# Altium integrated library SensWearComponents.IntLib: 75 symbols (part 3 of 4)
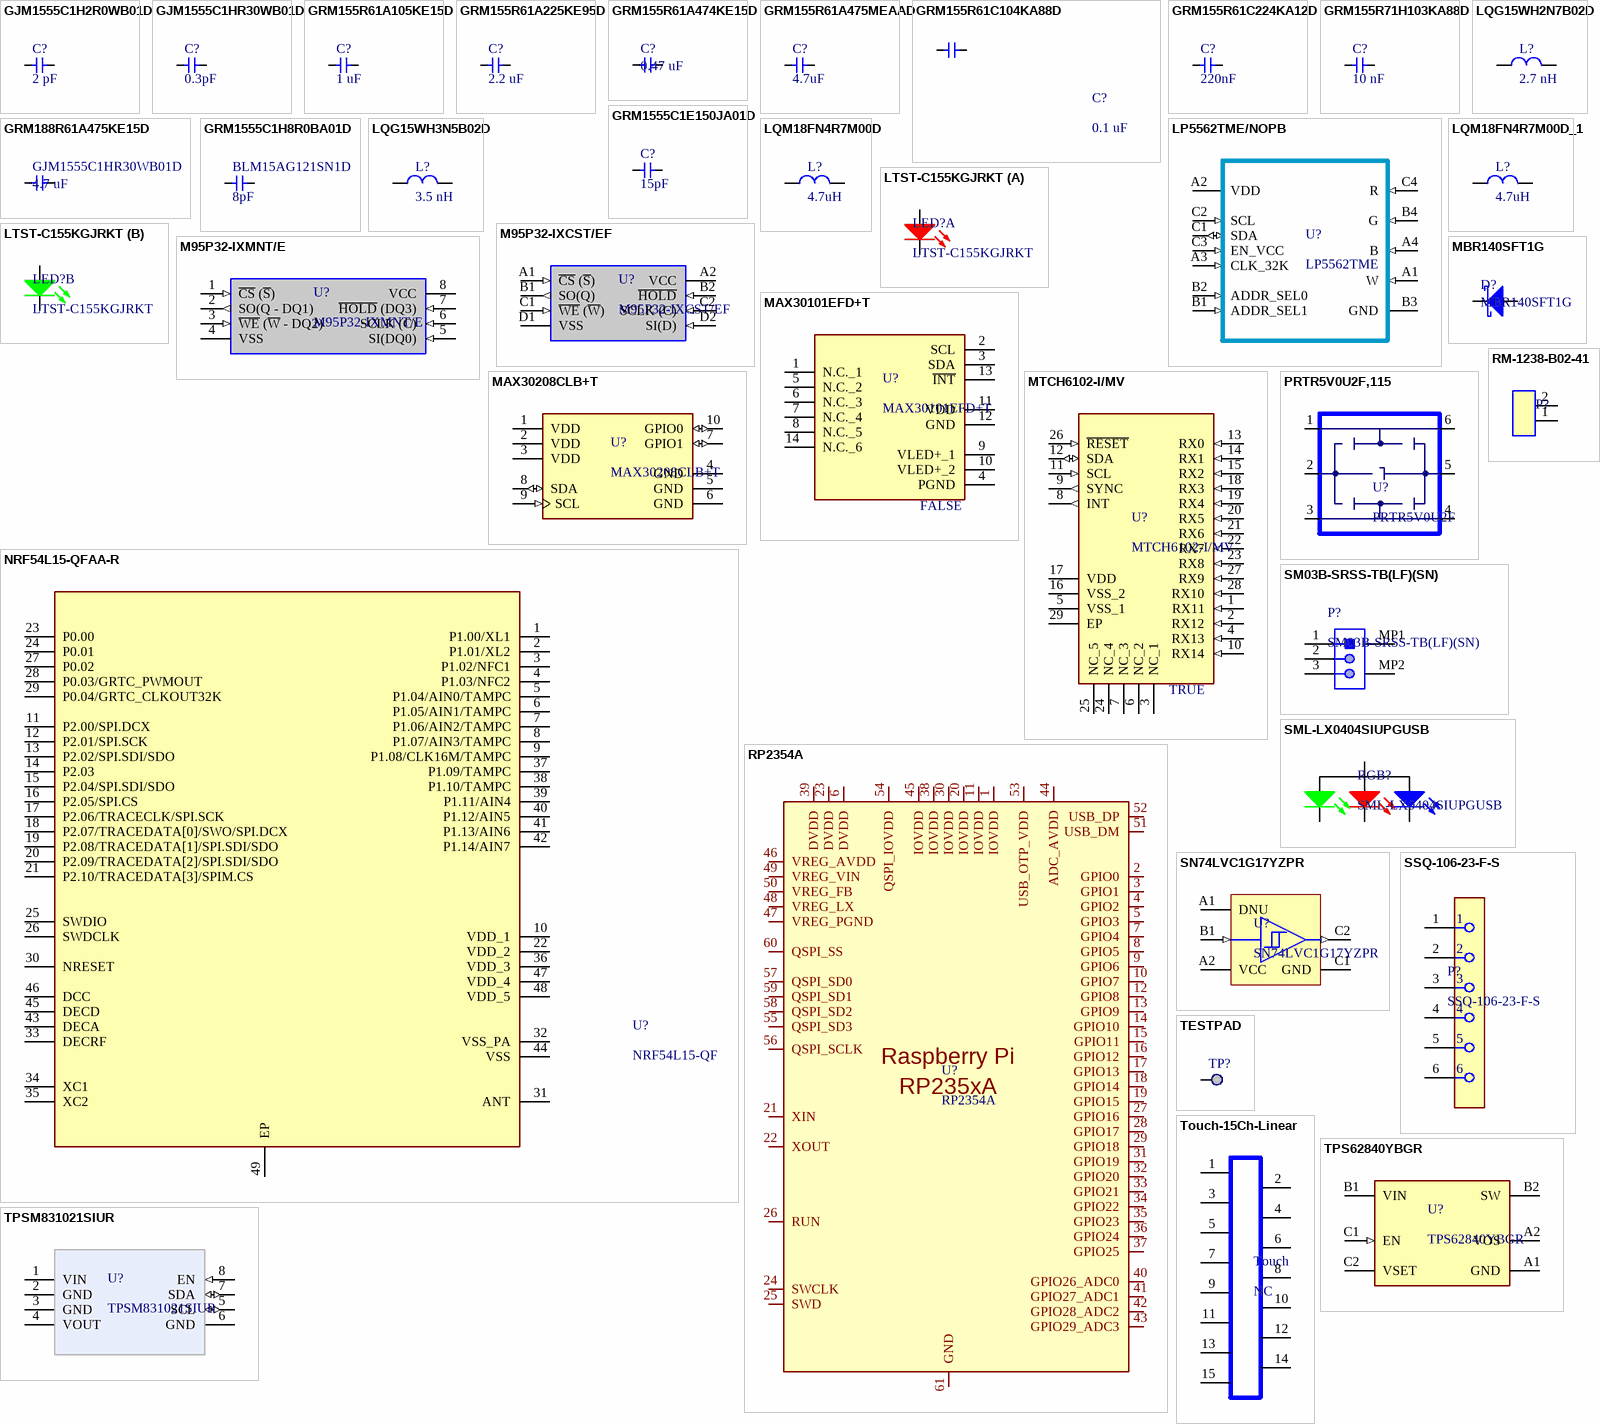
[diagram p3: symbols GJM1555C1H2R0WB01D to TPSM831021SIUR]

## LQM18FN4R7M00D
designator L?, comment 4.7uH
Inductor Power Chip Shielded Multi-Layer 4.7uH 20% 1MHz Ferrite 0.08A 0.78Ohm DCR 0603 T/R; Manufacturer: Murata; Manufacturer Part Number: LQM18FN4R7M00D; Manufacturer Lifecycle Status: ACTIVE; Self Resonant Frequency: 50MHz; DC Resistance (DCR): 600mR; Current Rating: 80mA; Average Rectified Current: 500mA; Element Configuration: Single; Forward Voltage: 460mV; Max Forward Surge Current (Ifsm): 10A; Max Junction Temperature (Tj): 150°C; Max Power Dissipation: 1.3W; Max Repetitive Reverse Voltage (Vrrm): 40V; Max Reverse Leakage Current: 15µA; Number of Elements: 1; Peak Reverse Current: 75µA; ESR: 780mΩ; Supplier: Mouser; Supplier Part Number: 81-LQM18FN4R7M00D; RoHS: Yes; Category: Fixed Inductors; Stock: 677; Pricing: 1=0.13, 10=0.11, 50=0.11, 100=0.091, 1000=0.075, 10000=0.06 (USD); Mounting Technology: Surface Mount; Case/Package: 0603; Core Material: Ferrite; Case Code (Metric): 1608; Case Code (Imperial): 0603; Weight: 7.1E-05oz; Min Operating Temperature: -55°C; Max Operating Temperature: 125°C; Tolerance: 20%; Shielding: Shielded; Packaging: Tape and Reel; Value: 4.7uH; Test Frequency: 1MHz; Series: LQM18F; Package Quantity: 1; Saturation Current: 80mA; Max DC Current: 80mA; Termination: SMD/SMT; DC Current: 80mA; Max Current Rating: 80mA; Length: 1.6mm; Width: 0.031inch; Height: 0.8mm; Height - Seated (Max): 0.035inch; Depth: 0.9mm; RoHS Compliant: Yes; Military Standard: Not; Lead Free: Lead Free; ComponentLink1URL: https://datasheet.ciiva.com/30489/0900766b812560c4-30489024.pdf?src-supplier=Rs; ComponentLink1Description: https://datasheet.ciiva.com/30489/0900766b812560c4-30489024.pdf?src-supplier=Rs; ComponentLink2URL: https://datasheet.ciiva.com/1039/l0075s0097lqm18f-1039394.pdf?src-supplier=Digikey; ComponentLink2Description: https://datasheet.ciiva.com/1039/l0075s0097lqm18f-1039394.pdf?src-supplier=Digikey; ComponentLink3URL: https://datasheet.ciiva.com/1039/l0075s0097lqm18f-1039393.pdf?src-supplier=Digikey; ComponentLink3Description: https://datasheet.ciiva.com/1039/l0075s0097lqm18f-1039393.pdf?src-supplier=Digikey; ComponentLink4URL: https://datasheet.ciiva.com/1039/l0075s0097lqm18f-1039395.pdf?src-supplier=Digikey; ComponentLink4Description: https://datasheet.ciiva.com/1039/l0075s0097lqm18f-1039395.pdf?src-supplier=Digikey; ComponentLink5URL: https://datasheet.ciiva.com/3082/l0075s0097lqm18f-3082197.pdf?src-supplier=Avnet; ComponentLink5Description: https://datasheet.ciiva.com/3082/l0075s0097lqm18f-3082197.pdf?src-supplier=Avnet; ComponentLink6URL: https://datasheet.ciiva.com/16390/l0075s0097lqm18f-16390346.pdf?src-supplier=Future+Electronics; ComponentLink6Description: https://datasheet.ciiva.com/16390/l0075s0097lqm18f-16390346.pdf?src-supplier=Future+Electronics; Supplier 1: Mouser; Supplier Part Number 1: 81-LQM18FN4R7M00D; Supplier 2: Digikey; Supplier Part Number 2: 490-4024-1-ND; Supplier 3: Digikey; Supplier Part Number 3: 490-4024-6-ND; China RoHS: Compliant; Contact Plating: Tin; Forward Current: 500mA; Lifecycle Status: Production; Max Output current: 500mA; Max Reverse Voltage (DC): 40V; Max Surge Current: 10A; Min Breakdown Voltage: 40V; Pins: 2; Number of Terminals: 2; Peak Non-Repetitive Surge Current: 10A; Radiation Hardening: No; REACH SVHC: Yes; Reverse Standoff Voltage: 40V; Reverse Voltage: 40V; Schedule B: 8541100070, 8541100070|8541100070|8541100070|8541100070|8541100070; ComponentLink7URL: https://datasheet.octopart.com:443/NSR05F40NXT5G-ON-Semiconductor-datasheet-94104276.pdf?src-supplier=JRH+Electronics; ComponentLink7Description: https://datasheet.octopart.com:443/NSR05F40NXT5G-ON-Semiconductor-datasheet-94104276.pdf?src-supplier=JRH+Electronics; ComponentLink8URL: https://datasheet.octopart.com:443/NSR05F40NXT5G-onsemi-datasheet-180967270.pdf?src-supplier=IHS; ComponentLink8Description: https://datasheet.octopart.com:443/NSR05F40NXT5G-onsemi-datasheet-180967270.pdf?src-supplier=IHS; ComponentLink9URL: https://sigma.octopart.com:443/142493867/technical_drawing/ON-Semiconductor-NSR05F40NXT5G.pdf?src-supplier=Upverter; ComponentLink9Description: https://sigma.octopart.com:443/142493867/technical_drawing/ON-Semiconductor-NSR05F40NXT5G.pdf?src-supplier=Upverter; ComponentLink10URL: https://datasheet.octopart.com:443/NSR05F40NXT5G-ON-Semiconductor-datasheet-37177440.pdf?src-supplier=Future+Electronics; ComponentLink10Description: https://datasheet.octopart.com:443/NSR05F40NXT5G-ON-Semiconductor-datasheet-37177440.pdf?src-supplier=Future+Electronics; ComponentLink11URL: https://datasheet.octopart.com:443/NSR05F40NXT5G-ON-Semiconductor-datasheet-11745561.pdf?src-supplier=element14+APAC; ComponentLink11Description: https://datasheet.octopart.com:443/NSR05F40NXT5G-ON-Semiconductor-datasheet-11745561.pdf?src-supplier=element14+APAC; ComponentLink12URL: https://datasheet.octopart.com:443/NSR05F40NXT5G-onsemi-datasheet-157596273.pdf?src-supplier=TME; ComponentLink12Description: https://datasheet.octopart.com:443/NSR05F40NXT5G-onsemi-datasheet-157596273.pdf?src-supplier=TME; ComponentLink13URL: http://sigma.octopart.com:80/150628044/rohs_statement/ON-Semiconductor-NSR05F40NXT5G.pdf?src-supplier=Compliance+Statements; ComponentLink13Description: http://sigma.octopart.com:80/150628044/rohs_statement/ON-Semiconductor-NSR05F40NXT5G.pdf?src-supplier=Compliance+Statements; ComponentLink14URL: http://sigma.octopart.com:80/reach_statement/ON-Semiconductor-company-79.pdf?src-supplier=Compliance+Statements; ComponentLink14Description: http://sigma.octopart.com:80/reach_statement/ON-Semiconductor-company-79.pdf?src-supplier=Compliance+Statements; ComponentLink15URL: https://octopart.com:443/opatz8j6/c1?t=Uq4oP0XYW20rA7GHSBTJXxRF7eBdr4oxj12W_Ow5ZQAQn3aEDntsR0v86sH67Y1VYL5Qd9r7fRzpz2SYouYyA9JWBfabzTk58wY7bKwJhLgZjmWKK4ZrC-dHOp6ai5rBi6r7DXU3w6lacVIfvaDn2nRF9UvHTuHHr9E3jzJFHL2pmpzCgrd95MfAU6WRjEqPrH4FXmi5Pb5vezZnW2ixtA-n7Il4BdWyE0xwS-HrM7RWY8bZfc2VlpjgXKB69n0rSfU3KsfeR3bp8yru8gdBl9cDCMeIg9t034yDtaHrjWpzFh7BGxEtGBfDY3iFXfrKSjB-Z7YETzzcCTzQSl0QWI7OlnwEF9Yev97QIn5lCD4&src-supplier=Compliance+Statements; ComponentLink15Description: https://octopart.com:443/opatz8j6/c1?t=Uq4oP0XYW20rA7GHSBTJXxRF7eBdr4oxj12W_Ow5ZQAQn3aEDntsR0v86sH67Y1VYL5Qd9r7fRzpz2SYouYyA9JWBfabzTk58wY7bKwJhLgZjmWKK4ZrC-dHOp6ai5rBi6r7DXU3w6lacVIfvaDn2nRF9UvHTuHHr9E3jzJFHL2pmpzCgrd95MfAU6WRjEqPrH4FXmi5Pb5vezZnW2ixtA-n7Il4BdWyE0xwS-HrM7RWY8bZfc2VlpjgXKB69n0rSfU3KsfeR3bp8yru8gdBl9cDCMeIg9t034yDtaHrjWpzFh7BGxEtGBfDY3iFXfrKSjB-Z7YETzzcCTzQSl0QWI7OlnwEF9Yev97QIn5lCD4&src-supplier=Compliance+Statements; ComponentLink16URL: https://octopart.com:443/opatz8j6/c1?t=tOMwwjJdKrMCwwp9xDXBgZ8DJoU_ElaTzUGOgd_zZExvTTC0p2NYJW3NlBnhz5vf_HXY9LJ17f1o9pBU_tcUnujW_Yxlprmd2-sSoR96ke0Q8YbgF19hBsAJQWJxEiKYx35u9p3RsTvb0HgNXHPMjTb1dZ8WyWhX8zQvkz3pewxX8C7MxnfqoNUS5V31fEqnYepoV_6IM_4K9PSSvd1Oj8BtQ1Cn5zO6iYOB9Eq_KnshKwZS0MVEEWCWsRMCFOTvi-Nc5U63y5iUW2btnkkl7e38_9u1deLWq8gsS2jWLNyNz5NsbtUkrAQjDqhF1ZfhZmjirHTwNQnQ7j0N6RbRGNLHDdWnOo0xcrVv93vy-P5A&src-supplier=Compliance+Statements; ComponentLink16Description: https://octopart.com:443/opatz8j6/c1?t=tOMwwjJdKrMCwwp9xDXBgZ8DJoU_ElaTzUGOgd_zZExvTTC0p2NYJW3NlBnhz5vf_HXY9LJ17f1o9pBU_tcUnujW_Yxlprmd2-sSoR96ke0Q8YbgF19hBsAJQWJxEiKYx35u9p3RsTvb0HgNXHPMjTb1dZ8WyWhX8zQvkz3pewxX8C7MxnfqoNUS5V31fEqnYepoV_6IM_4K9PSSvd1Oj8BtQ1Cn5zO6iYOB9Eq_KnshKwZS0MVEEWCWsRMCFOTvi-Nc5U63y5iUW2btnkkl7e38_9u1deLWq8gsS2jWLNyNz5NsbtUkrAQjDqhF1ZfhZmjirHTwNQnQ7j0N6RbRGNLHDdWnOo0xcrVv93vy-P5A&src-supplier=Compliance+Statements; Number of Circuits: 1; RMS Current (Irms): 80mA; ComponentLink17URL: https://datasheet.octopart.com:443/LQM18FN4R7M00D-Murata-datasheet-11731136.pdf?src-supplier=_legacy+Avnet; ComponentLink17Description: https://datasheet.octopart.com:443/LQM18FN4R7M00D-Murata-datasheet-11731136.pdf?src-supplier=_legacy+Avnet; ComponentLink18URL: https://datasheet.octopart.com:443/LQM18FN4R7M00D-Murata-datasheet-113139558.pdf?src-supplier=Ciiva; ComponentLink18Description: https://datasheet.octopart.com:443/LQM18FN4R7M00D-Murata-datasheet-113139558.pdf?src-supplier=Ciiva; ComponentLink19URL: https://datasheet.octopart.com:443/LQM18FN4R7M00D-Murata-datasheet-141287866.pdf?src-supplier=Ciiva; ComponentLink19Description: https://datasheet.octopart.com:443/LQM18FN4R7M00D-Murata-datasheet-141287866.pdf?src-supplier=Ciiva; ComponentLink20URL: https://datasheet.octopart.com:443/LQM18FN4R7M00D-Murata-datasheet-140714244.pdf?src-supplier=Ciiva; ComponentLink20Description: https://datasheet.octopart.com:443/LQM18FN4R7M00D-Murata-datasheet-140714244.pdf?src-supplier=Ciiva; ComponentLink21URL: https://datasheet.octopart.com:443/LQM18FN4R7M00D-Murata-datasheet-8328914.pdf?src-supplier=Future+Electronics; ComponentLink21Description: https://datasheet.octopart.com:443/LQM18FN4R7M00D-Murata-datasheet-8328914.pdf?src-supplier=Future+Electronics; ComponentLink22URL: https://datasheet.octopart.com:443/LQM18FN4R7M00D-Murata-datasheet-44660682.pdf?src-supplier=Future+Electronics; ComponentLink22Description: https://datasheet.octopart.com:443/LQM18FN4R7M00D-Murata-datasheet-44660682.pdf?src-supplier=Future+Electronics; ComponentLink23URL: https://datasheet.octopart.com:443/LQM18FN4R7M00D-Murata-datasheet-142045928.pdf?src-supplier=Arrow.cn; ComponentLink23Description: https://datasheet.octopart.com:443/LQM18FN4R7M00D-Murata-datasheet-142045928.pdf?src-supplier=Arrow.cn; ComponentLink24URL: https://datasheet.octopart.com:443/LQM18FN4R7M00D-Murata-datasheet-166300070.pdf?src-supplier=Arrow.cn; ComponentLink24Description: https://datasheet.octopart.com:443/LQM18FN4R7M00D-Murata-datasheet-166300070.pdf?src-supplier=Arrow.cn; ComponentLink25URL: https://datasheet.octopart.com:443/LQM18FN4R7M00D-Murata-datasheet-145450482.pdf?src-supplier=Geoflip; ComponentLink25Description: https://datasheet.octopart.com:443/LQM18FN4R7M00D-Murata-datasheet-145450482.pdf?src-supplier=Geoflip; ComponentLink26URL: https://datasheet.octopart.com:443/LQM18FN4R7M00D-Murata-datasheet-9818.pdf?src-supplier=DigiKey; ComponentLink26Description: https://datasheet.octopart.com:443/LQM18FN4R7M00D-Murata-datasheet-9818.pdf?src-supplier=DigiKey; ComponentLink27URL: https://datasheet.octopart.com/LQM18FN4R7M00D-Murata-datasheet-14392860.pdf; ComponentLink27Description: https://datasheet.octopart.com/LQM18FN4R7M00D-Murata-datasheet-14392860.pdf; ComponentLink28URL: http://sigma.octopart.com:80/reach_statement/Murata-company-16.pdf?src-supplier=Compliance+Statements; ComponentLink28Description: http://sigma.octopart.com:80/reach_statement/Murata-company-16.pdf?src-supplier=Compliance+Statements
footprint INDC1608X09N (Chip Inductor, 2-Leads, Body 1.60x0.80mm, IPC Medium Density)
pins: 1, 2

## LQM18FN4R7M00D_1
designator L?, comment 4.7uH
Inductor Power Chip Shielded Multi-Layer 4.7uH 20% 1MHz Ferrite 0.08A 0.78Ohm DCR 0603 T/R; Manufacturer: Murata; Manufacturer Part Number: LQM18FN4R7M00D; Manufacturer Lifecycle Status: ACTIVE; Self Resonant Frequency: 50MHz; DC Resistance (DCR): 600mR; Current Rating: 80mA; Average Rectified Current: 500mA; Element Configuration: Single; Forward Voltage: 460mV; Max Forward Surge Current (Ifsm): 10A; Max Junction Temperature (Tj): 150°C; Max Power Dissipation: 1.3W; Max Repetitive Reverse Voltage (Vrrm): 40V; Max Reverse Leakage Current: 15µA; Number of Elements: 1; Peak Reverse Current: 75µA; ESR: 780mΩ; Supplier: Mouser; Supplier Part Number: 81-LQM18FN4R7M00D; RoHS: Yes; Category: Fixed Inductors; Stock: 677; Pricing: 1=0.13, 10=0.11, 50=0.11, 100=0.091, 1000=0.075, 10000=0.06 (USD); Mounting Technology: Surface Mount; Case/Package: 0603; Core Material: Ferrite; Case Code (Metric): 1608; Case Code (Imperial): 0603; Weight: 7.1E-05oz; Min Operating Temperature: -55°C; Max Operating Temperature: 125°C; Tolerance: 20%; Shielding: Shielded; Packaging: Tape and Reel; Value: 4.7uH; Test Frequency: 1MHz; Series: LQM18F; Package Quantity: 1; Saturation Current: 80mA; Max DC Current: 80mA; Termination: SMD/SMT; DC Current: 80mA; Max Current Rating: 80mA; Length: 1.6mm; Width: 0.031inch; Height: 0.8mm; Height - Seated (Max): 0.035inch; Depth: 0.9mm; RoHS Compliant: Yes; Military Standard: Not; Lead Free: Lead Free; ComponentLink1URL: https://datasheet.ciiva.com/30489/0900766b812560c4-30489024.pdf?src-supplier=Rs; ComponentLink1Description: https://datasheet.ciiva.com/30489/0900766b812560c4-30489024.pdf?src-supplier=Rs; ComponentLink2URL: https://datasheet.ciiva.com/1039/l0075s0097lqm18f-1039394.pdf?src-supplier=Digikey; ComponentLink2Description: https://datasheet.ciiva.com/1039/l0075s0097lqm18f-1039394.pdf?src-supplier=Digikey; ComponentLink3URL: https://datasheet.ciiva.com/1039/l0075s0097lqm18f-1039393.pdf?src-supplier=Digikey; ComponentLink3Description: https://datasheet.ciiva.com/1039/l0075s0097lqm18f-1039393.pdf?src-supplier=Digikey; ComponentLink4URL: https://datasheet.ciiva.com/1039/l0075s0097lqm18f-1039395.pdf?src-supplier=Digikey; ComponentLink4Description: https://datasheet.ciiva.com/1039/l0075s0097lqm18f-1039395.pdf?src-supplier=Digikey; ComponentLink5URL: https://datasheet.ciiva.com/3082/l0075s0097lqm18f-3082197.pdf?src-supplier=Avnet; ComponentLink5Description: https://datasheet.ciiva.com/3082/l0075s0097lqm18f-3082197.pdf?src-supplier=Avnet; ComponentLink6URL: https://datasheet.ciiva.com/16390/l0075s0097lqm18f-16390346.pdf?src-supplier=Future+Electronics; ComponentLink6Description: https://datasheet.ciiva.com/16390/l0075s0097lqm18f-16390346.pdf?src-supplier=Future+Electronics; Supplier 1: Mouser; Supplier Part Number 1: 81-LQM18FN4R7M00D; Supplier 2: Digikey; Supplier Part Number 2: 490-4024-1-ND; Supplier 3: Digikey; Supplier Part Number 3: 490-4024-6-ND; China RoHS: Compliant; Contact Plating: Tin; Forward Current: 500mA; Lifecycle Status: Production; Max Output current: 500mA; Max Reverse Voltage (DC): 40V; Max Surge Current: 10A; Min Breakdown Voltage: 40V; Pins: 2; Number of Terminals: 2; Peak Non-Repetitive Surge Current: 10A; Radiation Hardening: No; REACH SVHC: Yes; Reverse Standoff Voltage: 40V; Reverse Voltage: 40V; Schedule B: 8541100070, 8541100070|8541100070|8541100070|8541100070|8541100070; ComponentLink7URL: https://datasheet.octopart.com:443/NSR05F40NXT5G-ON-Semiconductor-datasheet-94104276.pdf?src-supplier=JRH+Electronics; ComponentLink7Description: https://datasheet.octopart.com:443/NSR05F40NXT5G-ON-Semiconductor-datasheet-94104276.pdf?src-supplier=JRH+Electronics; ComponentLink8URL: https://datasheet.octopart.com:443/NSR05F40NXT5G-onsemi-datasheet-180967270.pdf?src-supplier=IHS; ComponentLink8Description: https://datasheet.octopart.com:443/NSR05F40NXT5G-onsemi-datasheet-180967270.pdf?src-supplier=IHS; ComponentLink9URL: https://sigma.octopart.com:443/142493867/technical_drawing/ON-Semiconductor-NSR05F40NXT5G.pdf?src-supplier=Upverter; ComponentLink9Description: https://sigma.octopart.com:443/142493867/technical_drawing/ON-Semiconductor-NSR05F40NXT5G.pdf?src-supplier=Upverter; ComponentLink10URL: https://datasheet.octopart.com:443/NSR05F40NXT5G-ON-Semiconductor-datasheet-37177440.pdf?src-supplier=Future+Electronics; ComponentLink10Description: https://datasheet.octopart.com:443/NSR05F40NXT5G-ON-Semiconductor-datasheet-37177440.pdf?src-supplier=Future+Electronics; ComponentLink11URL: https://datasheet.octopart.com:443/NSR05F40NXT5G-ON-Semiconductor-datasheet-11745561.pdf?src-supplier=element14+APAC; ComponentLink11Description: https://datasheet.octopart.com:443/NSR05F40NXT5G-ON-Semiconductor-datasheet-11745561.pdf?src-supplier=element14+APAC; ComponentLink12URL: https://datasheet.octopart.com:443/NSR05F40NXT5G-onsemi-datasheet-157596273.pdf?src-supplier=TME; ComponentLink12Description: https://datasheet.octopart.com:443/NSR05F40NXT5G-onsemi-datasheet-157596273.pdf?src-supplier=TME; ComponentLink13URL: http://sigma.octopart.com:80/150628044/rohs_statement/ON-Semiconductor-NSR05F40NXT5G.pdf?src-supplier=Compliance+Statements; ComponentLink13Description: http://sigma.octopart.com:80/150628044/rohs_statement/ON-Semiconductor-NSR05F40NXT5G.pdf?src-supplier=Compliance+Statements; ComponentLink14URL: http://sigma.octopart.com:80/reach_statement/ON-Semiconductor-company-79.pdf?src-supplier=Compliance+Statements; ComponentLink14Description: http://sigma.octopart.com:80/reach_statement/ON-Semiconductor-company-79.pdf?src-supplier=Compliance+Statements; ComponentLink15URL: https://octopart.com:443/opatz8j6/c1?t=Uq4oP0XYW20rA7GHSBTJXxRF7eBdr4oxj12W_Ow5ZQAQn3aEDntsR0v86sH67Y1VYL5Qd9r7fRzpz2SYouYyA9JWBfabzTk58wY7bKwJhLgZjmWKK4ZrC-dHOp6ai5rBi6r7DXU3w6lacVIfvaDn2nRF9UvHTuHHr9E3jzJFHL2pmpzCgrd95MfAU6WRjEqPrH4FXmi5Pb5vezZnW2ixtA-n7Il4BdWyE0xwS-HrM7RWY8bZfc2VlpjgXKB69n0rSfU3KsfeR3bp8yru8gdBl9cDCMeIg9t034yDtaHrjWpzFh7BGxEtGBfDY3iFXfrKSjB-Z7YETzzcCTzQSl0QWI7OlnwEF9Yev97QIn5lCD4&src-supplier=Compliance+Statements; ComponentLink15Description: https://octopart.com:443/opatz8j6/c1?t=Uq4oP0XYW20rA7GHSBTJXxRF7eBdr4oxj12W_Ow5ZQAQn3aEDntsR0v86sH67Y1VYL5Qd9r7fRzpz2SYouYyA9JWBfabzTk58wY7bKwJhLgZjmWKK4ZrC-dHOp6ai5rBi6r7DXU3w6lacVIfvaDn2nRF9UvHTuHHr9E3jzJFHL2pmpzCgrd95MfAU6WRjEqPrH4FXmi5Pb5vezZnW2ixtA-n7Il4BdWyE0xwS-HrM7RWY8bZfc2VlpjgXKB69n0rSfU3KsfeR3bp8yru8gdBl9cDCMeIg9t034yDtaHrjWpzFh7BGxEtGBfDY3iFXfrKSjB-Z7YETzzcCTzQSl0QWI7OlnwEF9Yev97QIn5lCD4&src-supplier=Compliance+Statements; ComponentLink16URL: https://octopart.com:443/opatz8j6/c1?t=tOMwwjJdKrMCwwp9xDXBgZ8DJoU_ElaTzUGOgd_zZExvTTC0p2NYJW3NlBnhz5vf_HXY9LJ17f1o9pBU_tcUnujW_Yxlprmd2-sSoR96ke0Q8YbgF19hBsAJQWJxEiKYx35u9p3RsTvb0HgNXHPMjTb1dZ8WyWhX8zQvkz3pewxX8C7MxnfqoNUS5V31fEqnYepoV_6IM_4K9PSSvd1Oj8BtQ1Cn5zO6iYOB9Eq_KnshKwZS0MVEEWCWsRMCFOTvi-Nc5U63y5iUW2btnkkl7e38_9u1deLWq8gsS2jWLNyNz5NsbtUkrAQjDqhF1ZfhZmjirHTwNQnQ7j0N6RbRGNLHDdWnOo0xcrVv93vy-P5A&src-supplier=Compliance+Statements; ComponentLink16Description: https://octopart.com:443/opatz8j6/c1?t=tOMwwjJdKrMCwwp9xDXBgZ8DJoU_ElaTzUGOgd_zZExvTTC0p2NYJW3NlBnhz5vf_HXY9LJ17f1o9pBU_tcUnujW_Yxlprmd2-sSoR96ke0Q8YbgF19hBsAJQWJxEiKYx35u9p3RsTvb0HgNXHPMjTb1dZ8WyWhX8zQvkz3pewxX8C7MxnfqoNUS5V31fEqnYepoV_6IM_4K9PSSvd1Oj8BtQ1Cn5zO6iYOB9Eq_KnshKwZS0MVEEWCWsRMCFOTvi-Nc5U63y5iUW2btnkkl7e38_9u1deLWq8gsS2jWLNyNz5NsbtUkrAQjDqhF1ZfhZmjirHTwNQnQ7j0N6RbRGNLHDdWnOo0xcrVv93vy-P5A&src-supplier=Compliance+Statements; Number of Circuits: 1; RMS Current (Irms): 80mA; ComponentLink17URL: https://datasheet.octopart.com:443/LQM18FN4R7M00D-Murata-datasheet-11731136.pdf?src-supplier=_legacy+Avnet; ComponentLink17Description: https://datasheet.octopart.com:443/LQM18FN4R7M00D-Murata-datasheet-11731136.pdf?src-supplier=_legacy+Avnet; ComponentLink18URL: https://datasheet.octopart.com:443/LQM18FN4R7M00D-Murata-datasheet-113139558.pdf?src-supplier=Ciiva; ComponentLink18Description: https://datasheet.octopart.com:443/LQM18FN4R7M00D-Murata-datasheet-113139558.pdf?src-supplier=Ciiva; ComponentLink19URL: https://datasheet.octopart.com:443/LQM18FN4R7M00D-Murata-datasheet-141287866.pdf?src-supplier=Ciiva; ComponentLink19Description: https://datasheet.octopart.com:443/LQM18FN4R7M00D-Murata-datasheet-141287866.pdf?src-supplier=Ciiva; ComponentLink20URL: https://datasheet.octopart.com:443/LQM18FN4R7M00D-Murata-datasheet-140714244.pdf?src-supplier=Ciiva; ComponentLink20Description: https://datasheet.octopart.com:443/LQM18FN4R7M00D-Murata-datasheet-140714244.pdf?src-supplier=Ciiva; ComponentLink21URL: https://datasheet.octopart.com:443/LQM18FN4R7M00D-Murata-datasheet-8328914.pdf?src-supplier=Future+Electronics; ComponentLink21Description: https://datasheet.octopart.com:443/LQM18FN4R7M00D-Murata-datasheet-8328914.pdf?src-supplier=Future+Electronics; ComponentLink22URL: https://datasheet.octopart.com:443/LQM18FN4R7M00D-Murata-datasheet-44660682.pdf?src-supplier=Future+Electronics; ComponentLink22Description: https://datasheet.octopart.com:443/LQM18FN4R7M00D-Murata-datasheet-44660682.pdf?src-supplier=Future+Electronics; ComponentLink23URL: https://datasheet.octopart.com:443/LQM18FN4R7M00D-Murata-datasheet-142045928.pdf?src-supplier=Arrow.cn; ComponentLink23Description: https://datasheet.octopart.com:443/LQM18FN4R7M00D-Murata-datasheet-142045928.pdf?src-supplier=Arrow.cn; ComponentLink24URL: https://datasheet.octopart.com:443/LQM18FN4R7M00D-Murata-datasheet-166300070.pdf?src-supplier=Arrow.cn; ComponentLink24Description: https://datasheet.octopart.com:443/LQM18FN4R7M00D-Murata-datasheet-166300070.pdf?src-supplier=Arrow.cn; ComponentLink25URL: https://datasheet.octopart.com:443/LQM18FN4R7M00D-Murata-datasheet-145450482.pdf?src-supplier=Geoflip; ComponentLink25Description: https://datasheet.octopart.com:443/LQM18FN4R7M00D-Murata-datasheet-145450482.pdf?src-supplier=Geoflip; ComponentLink26URL: https://datasheet.octopart.com:443/LQM18FN4R7M00D-Murata-datasheet-9818.pdf?src-supplier=DigiKey; ComponentLink26Description: https://datasheet.octopart.com:443/LQM18FN4R7M00D-Murata-datasheet-9818.pdf?src-supplier=DigiKey; ComponentLink27URL: https://datasheet.octopart.com/LQM18FN4R7M00D-Murata-datasheet-14392860.pdf; ComponentLink27Description: https://datasheet.octopart.com/LQM18FN4R7M00D-Murata-datasheet-14392860.pdf; ComponentLink28URL: http://sigma.octopart.com:80/reach_statement/Murata-company-16.pdf?src-supplier=Compliance+Statements; ComponentLink28Description: http://sigma.octopart.com:80/reach_statement/Murata-company-16.pdf?src-supplier=Compliance+Statements
footprint INDC1608X09N (Chip Inductor, 2-Leads, Body 1.60x0.80mm, IPC Medium Density)
pins: 1, 2

## LTST-C155KGJRKT
designator LED?
LED GREEN/RED CLEAR CHIP SMD; Manufacturer: Vishay Lite-On; Color: Green,Red; Lens Color: Colorless; Reverse Voltage: 5V; Wavelength: 639nm; Number of LEDs: 2; Forward Current: 30mA; Forward Voltage: 2V; Power Rating: 75mW; Luminous Intensity: 45mcd; Viewing Angle: 130°; Lens Style: Diffused,Colorless,Rectangular,Clear; Dominant Wavelength: 631nm; Test Current: 20mA; Supplier 1: Digi-Key; Supplier Part Number 1: 160-1409-1-ND; Manufacturer Part Number: LTST-C155KGJRKT; RoHS: Yes; Category: LEDs; Stock 1: 123598; Pricing 1: 1=0.43000, 10=0.28000, 100=0.18670, 500=0.12912, 1000=0.10760 (USD); Mount: Surface Mount; Case/Package: 1210; Number of Pins: 4; Case Code (Imperial): 1210; Case Code (Metric): 3225; Min Operating Temperature: -55°C; Max Operating Temperature: 85°C; Packaging: Tape and Reel; Package Quantity: 1; Illumination Color: Green,Red; Lens Transparency: Clear; Number of Elements: 2; Power Dissipation: 75mW; Max Power Dissipation: 75mW; Length: 2.7mm; Width: 2.7mm; Height: 1.1mm; Depth: 3.2mm; Radiation Hardening: No; Lead Free: Lead Free; ComponentLink1URL: https://datasheet.ciiva.com/11774/0900766b80dc0273-11774195.pdf?src-supplier=RSComponents; ComponentLink1Description: https://datasheet.ciiva.com/11774/0900766b80dc0273-11774195.pdf?src-supplier=RSComponents; ComponentLink2URL: https://datasheet.ciiva.com/15117/getdatasheetpartid-103641-15117440.pdf?src-supplier=Verical; ComponentLink2Description: https://datasheet.ciiva.com/15117/getdatasheetpartid-103641-15117440.pdf?src-supplier=Verical; ComponentLink3URL: https://datasheet.ciiva.com/16366/lite-on20ltst-c155kgjrkt-16366147.pdf?src-supplier=Future+Electronics; ComponentLink3Description: https://datasheet.ciiva.com/16366/lite-on20ltst-c155kgjrkt-16366147.pdf?src-supplier=Future+Electronics; ComponentLink4URL: https://datasheet.ciiva.com/27051/1260277-27051786.pdf?src-supplier=Jameco; ComponentLink4Description: https://datasheet.ciiva.com/27051/1260277-27051786.pdf?src-supplier=Jameco; ComponentLink5URL: https://datasheet.ciiva.com/2110/s-110-ltst-c155kgjrkt-2110800.pdf?src-supplier=Digi-Key; ComponentLink5Description: https://datasheet.ciiva.com/2110/s-110-ltst-c155kgjrkt-2110800.pdf?src-supplier=Digi-Key; ComponentLink6URL: https://datasheet.ciiva.com/2110/s-110-ltst-c155kgjrkt-2110801.pdf?src-supplier=Digi-Key; ComponentLink6Description: https://datasheet.ciiva.com/2110/s-110-ltst-c155kgjrkt-2110801.pdf?src-supplier=Digi-Key
footprint LTST-C155KGJRKT
part A pins: 2 A, 4 K
part B pins: 1 A, 3 K

## M95P32-IXCST/EF
designator U?
M95P32-I Series 32 Mb (4 M x 8) 80 MHz SPI EEPROM Memory IC - WLCSP-8; Manufacturer: STMicroelectronics; Supplier: Digikey; Supplier Part Number: 497-M95P32-IXCST/EFDKR-ND; Manufacturer Part Number: M95P32-IXCST/EF; RoHS: No; Category: Memory; Stock: 9222; Pricing: 1=2.68, 10=2.409, 25=2.2724, 100=1.9362, 250=1.818, 500=1.59076, 1000=1.31805, 2500=1.22715 (USD); Supplier 1: Mouser; Supplier Part Number 1: 511-M95P32-IXCST/EF; Supplier 2: Digikey; Supplier Part Number 2: 497-M95P32-IXCST/EFCT-ND
footprint BGA8C70P2X4_153X261X58 (BGA, 8-Leads, Body 1.53x2.61mmx0.58mm, Pitch 0.70mm)
pins: A1 ~{CS} (~{S}) (in), A2 VCC (power), B1 SO(Q) (out), B2 ~{HOLD} (in), C1 ~{WE} (~{W}) (in), C2 SCLK (C) (in), D1 VSS (power), D2 SI(D) (in)

## M95P32-IXMNT/E
designator U?
Eeprom, 32Mbit, -40 To 85Deg C Rohs Compliant: Yes |Stmicroelectronics M95P32-IXMNT/E; Interface: Parallel; Clock Frequency: 80MHz; Max Supply Current: 5mA; Max Supply Voltage: 3.6V; Min Supply Voltage: 1.6V; Number of Circuits: 1; Operating Supply Voltage: 1.8V; Supplier: Farnell; Supplier Part Number: M95P32-IXMNT/E; Manufacturer: STMicroelectronics; Manufacturer Part Number: M95P32-IXMNT/E; RoHS: Compliant; Category: EEPROM; Stock: 1; Pricing: 1=1.53, 10=1.21, 50=1.09, 100=0.968, 250=0.911, 500=0.876, 2500=0.816 (EUR); Case/Package: SOP; China RoHS: Compliant; Country of Origin: Mainland China; Export Control Classification Number (ECCN) Code: 3A991.B.1.B.1; Height - Seated (Max): 1.75mm; Harmonized Tariff Schedule (HTS) Code: 8542.32.00.51; Introduction Date: 2022-06-15; Length: 4.9mm; Lifecycle Status: Production; Max Operating Temperature: 85°C; Memory Format: EEPROM; Min Operating Temperature: -40°C; Number of Terminals: 8; REACH SVHC: Yes; Terminal Pitch: 1.27mm; Width: 3.9mm; Supplier 1: Farnell; Supplier Part Number 1: M95P32-IXMNT/E
footprint SO8N_4X5X1P27_STM-M
pins: 1 ~{CS} (~{S}) (in), 2 SO(Q - DQ1) (out), 3 ~{WE} (~{W} - DQ2) (in), 4 VSS (power), 5 SI(DQ0) (in), 6 SCLK (C) (in), 7 ~{HOLD} (DQ3) (in), 8 VCC (power)

## MAX30101EFD+T
designator U?  Checked: FALSE
High-Sensitivity Pulse Oximeter and Heart-Rate Sensor for Fitness & Healthcare; Manufacturer: Maxim; Output Type: I2C; Supplier: Digikey; Supplier Part Number: MAX30101EFD+TCT-ND; Manufacturer Part Number: MAX30101EFD+T; RoHS: Yes; Category: Sensors; Stock: 1955; Pricing: 1=11.32, 10=10.228, 25=9.752, 100=8.4676, 250=8.08708, 500=7.3735, 1000=6.42208 (USD); Min Operating Temperature: -40°C; Max Operating Temperature: 85°C; Series: -; Packaging: Cut Tape; RoHS Compliant: Yes; ComponentLink1URL: https://datasheets.maximintegrated.com/en/ds/MAX30101.pdf?src-supplier=Digikey; ComponentLink1Description: https://datasheets.maximintegrated.com/en/ds/MAX30101.pdf?src-supplier=Digikey; Supplier 1: Mouser; Supplier Part Number 1: 700-MAX30101EFD+T; Supplier 2: Digikey; Supplier Part Number 2: MAX30101EFD+TCT-ND; Supplier 3: Digikey; Supplier Part Number 3: MAX30101EFD+TDKR-ND
footprint 14-LEAD-OESIP
pins: 1 N.C._1, 2 SCL, 3 SDA, 4 PGND, 5 N.C._2, 6 N.C._3, 7 N.C._4, 8 N.C._5, 9 VLED+_1, 10 VLED+_2, 11 VDD, 12 GND, 13 ~{INT}, 14 N.C._6

## MAX30208CLB+T
designator U?
I2C Digital Temperature Sensor Serial I2C 10-Pin Thin LGA T/R; Manufacturer: Maxim; Checked: TRUE; Supplier: Mouser; Supplier Part Number: 700-MAX30208CLB+T; Manufacturer Part Number: MAX30208CLB+T; RoHS: Yes; Category: Temperature and Humidity Sensors; Stock: 16152; Pricing: 1=3.7, 10=2.9, 50=2.9, 100=2.69, 1000=2.11, 10000=1.97 (USD); Supplier 1: Mouser; Supplier Part Number 1: 700-MAX30208CLB+T; Supplier 2: Digikey; Supplier Part Number 2: 175-MAX30208CLB+TDKR-ND; Supplier 3: Digikey; Supplier Part Number 3: 175-MAX30208CLB+TTR-ND
footprint FP-L1022-2-MFG
pins: 1 VDD (power), 2 VDD (power), 3 VDD (power), 4 GND (power), 5 GND (power), 6 GND (power), 7 GPIO1 (io), 8 SDA (io), 9 SCL (in), 10 GPIO0 (io)

## MBR140SFT1G
designator D?
DIODE SCHOTTKY 40V 1A SOD123L; Manufacturer: ON Semiconductor; Voltage - Forward (Vf) (Max) @ If: 550mV @ 1A; Speed: Fast Recovery =< 500ns, > 200mA (Io); Current - Reverse Leakage @ Vr: 500µA @ 40V; Supplier 1: Digi-Key; Manufacturer Part Number: MBR140SFT1G; RoHS: RoHS Compliant; Category: Discrete Semiconductor Products; Stock 1: 29983; Pricing 1: 1=0.3, 10=0.23, 100=0.1431, 500=0.09782, 1000=0.07519 (GBP); Packaging: Digi-Reel®; Part Status: Active; Diode Type: Schottky; Voltage - DC Reverse (Vr) (Max): 40V; Current - Average Rectified (Io): 1A; Reverse Recovery Time (trr): -; Capacitance @ Vr, F: -; Mounting Type: Surface Mount; Package / Case: SOD-123F; Supplier Device Package: SOD-123L; Operating Temperature - Junction: -55°C ~ 125°C; ComponentLink1URL: http://www.onsemi.com/pub_link/Collateral/MBR140SFT1-D.PDF; ComponentLink1Description: http://www.onsemi.com/pub_link/Collateral/MBR140SFT1-D.PDF; Supplier Part Number 1: MBR140SFT1GOSDKR-ND
footprint SODFL360X110-2N (SODFL, 2-Leads, Body 1.65x3.60mm, IPC Medium Density)
signal-integrity model Model Name (Model Description)
pins: 1 cathode, 2 ANODE

## MTCH6102-I/MV
designator U?  Checked: TRUE
Capacitive Touch Screen Automotive 28-Pin UQFN EP Tube; Manufacturer: Microchip; Supplier: Digikey; Supplier Part Number: MTCH6102-I/MV-ND; Manufacturer Part Number: MTCH6102-I/MV; RoHS: Yes; Category: Touch Screen Controllers; Stock: 496; Pricing: 1=1.95, 25=1.8, 100=1.62 (USD); ComponentLink1URL: https://datasheet.ciiva.com/29355/filehandler-aspxddocname-en568912-29355091.pdf?src-supplier=Digikey; ComponentLink1Description: https://datasheet.ciiva.com/29355/filehandler-aspxddocname-en568912-29355091.pdf?src-supplier=Digikey; ComponentLink2URL: https://datasheet.ciiva.com/48495/40001750a-48495606.pdf?src-supplier=Avnet; ComponentLink2Description: https://datasheet.ciiva.com/48495/40001750a-48495606.pdf?src-supplier=Avnet; ComponentLink3URL: https://datasheet.ciiva.com/46405/1810724-46405963.pdf?src-supplier=Element14; ComponentLink3Description: https://datasheet.ciiva.com/46405/1810724-46405963.pdf?src-supplier=Element14; Supplier 1: Digikey; Supplier Part Number 1: MTCH6102-I/MV-ND; Supplier 2: Mouser; Supplier Part Number 2: 579-MTCH6102-I/MV; Supplier 3: Arrow Electronics; Supplier Part Number 3: MTCH6102-I/MV
footprint QFN40P400X400X55_HS-29N (QFN, 28-Leads, Body 4.00x4.00mm, Pitch 0.40mm, Thermal Pad 2.35x2.35mm, IPC Medium Density)
pins: 1 RX11 (in), 2 RX12 (in), 3 NC_1, 4 RX13 (in), 5 VSS_1 (power), 6 NC_2, 7 NC_3, 8 INT (out), 9 SYNC (out), 10 RX14 (in), 11 SCL (in), 12 SDA (io), 13 RX0 (in), 14 RX1 (in), 15 RX2 (in), 16 VSS_2 (power), 17 VDD (power), 18 RX3 (in), 19 RX4 (in), 20 RX5 (in), 21 RX6 (in), 22 RX7 (in), 23 RX8 (in), 24 NC_4, 25 NC_5, 26 ~{RESET} (in), 27 RX9 (in), 28 RX10 (in), 29 EP (power)

## NRF54L15-QFAA-R
designator U?, comment NRF54L15-QF
nRF54L15 SoC with Arm Cortex-M33 processor; Manufacturer: Nordic Semiconductor; Manufacturer Part Number: NRF54L15-QFAA-R; Supplier: Mouser; Supplier Part Number: 949-NRF54L15-QFAA-R; RoHS: No; Category: RF Receivers, Transceivers; Stock: 719; Pricing: 1=6.84, 10=6.11, 50=6.11, 100=5.02, 1000=3.62, 10000=3.07 (USD)
footprint QFN40P600X600X95-49N
pins: 1 P1.00/XL1, 2 P1.01/XL2, 3 P1.02/NFC1, 4 P1.03/NFC2, 5 P1.04/AIN0/TAMPC, 6 P1.05/AIN1/TAMPC, 7 P1.06/AIN2/TAMPC, 8 P1.07/AIN3/TAMPC, 9 P1.08/CLK16M/TAMPC, 10 VDD_1, 11 P2.00/SPI.DCX, 12 P2.01/SPI.SCK, 13 P2.02/SPI.SDI/SDO, 14 P2.03, 15 P2.04/SPI.SDI/SDO, 16 P2.05/SPI.CS, 17 P2.06/TRACECLK/SPI.SCK, 18 P2.07/TRACEDATA[0]/SWO/SPI.DCX, 19 P2.08/TRACEDATA[1]/SPI.SDI/SDO, 20 P2.09/TRACEDATA[2]/SPI.SDI/SDO, 21 P2.10/TRACEDATA[3]/SPIM.CS, 22 VDD_2, 23 P0.00, 24 P0.01, 25 SWDIO, 26 SWDCLK, 27 P0.02, 28 P0.03/GRTC_PWMOUT, 29 P0.04/GRTC_CLKOUT32K, 30 NRESET, 31 ANT, 32 VSS_PA, 33 DECRF, 34 XC1, 35 XC2, 36 VDD_3, 37 P1.09/TAMPC, 38 P1.10/TAMPC, 39 P1.11/AIN4, 40 P1.12/AIN5, 41 P1.13/AIN6, 42 P1.14/AIN7, 43 DECA, 44 VSS, 45 DECD, 46 DCC, 47 VDD_4, 48 VDD_5, 49 EP

## PRTR5V0U2F,115
designator U?, comment PRTR5V0U2F
TVS DIODE 5.5VWM SOT886; Manufacturer: NXP Semiconductors; Manufacturer Part Number: PRTR5V0U2F,115; Bidirectional Channels: 2; Voltage - Reverse Standoff (Typ): 5.5V (Max); Voltage - Breakdown (Min): 6V; Power Line Protection: Yes; Capacitance @ Frequency: 1pF @ 1MHz; Supplier 1: Digi-Key; RoHS: RoHS Compliant; Category: Circuit Protection; Stock 1: 51030; Pricing 1: 1=0.38, 10=0.325, 100=0.2427, 500=0.19058, 1000=0.14693 (GBP); Packaging: Digi-Reel®; Part Status: Active; Type: Steering (Rail to Rail); Unidirectional Channels: -; Voltage - Clamping (Max) @ Ipp: -; Current - Peak Pulse (10/1000µs): -; Power - Peak Pulse: -; Applications: Automotive; Operating Temperature: -40°C ~ 85°C (TA); Mounting Type: Surface Mount; Package / Case: 6-XFDFN; Supplier Device Package: 6-XSON, SOT886 (1.45x1); ComponentLink1URL: http://www.nxp.com/documents/data_sheet/PRTR5V0U2F_PRTR5V0U2K.pdf; ComponentLink1Description: http://www.nxp.com/documents/data_sheet/PRTR5V0U2F_PRTR5V0U2K.pdf; Supplier Part Number 1: 568-4677-6-ND
footprint SON50P100X50-6N (SON, 6-Leads, Body 1.45x1.00mm, Pitch 0.50mm, IPC Medium Density)
pins: 1, 2, 3, 4, 5, 6

## RM-1238-B02-41
designator P?  (value not drawn)
RM-1238-B02-41 by www.xtpogopin.com; Manufacturer: XTPogoPin; Manufacturer Part Number: RM-1238-B02-41
footprint RM-1238-B02-41_2
pins: 1, 2

## RP2354A
designator U?
footprint QFN40P700X700X90_HS-61N (QFN, 60-Leads, Body 7.00x7.00mm, Pitch 0.40mm, Thermal Pad 3.40x3.40mm, IPC Medium Density)
pins: 1 IOVDD, 2 GPIO0, 3 GPIO1, 4 GPIO2, 5 GPIO3, 6 DVDD, 7 GPIO4, 8 GPIO5, 9 GPIO6, 10 GPIO7, 11 IOVDD, 12 GPIO8, 13 GPIO9, 14 GPIO10, 15 GPIO11, 16 GPIO12, 17 GPIO13, 18 GPIO14, 19 GPIO15, 20 IOVDD, 21 XIN, 22 XOUT, 23 DVDD, 24 SWCLK, 25 SWD, 26 RUN, 27 GPIO16, 28 GPIO17, 29 GPIO18, 30 IOVDD, 31 GPIO19, 32 GPIO20, 33 GPIO21, 34 GPIO22, 35 GPIO23, 36 GPIO24, 37 GPIO25, 38 IOVDD, 39 DVDD, 40 GPIO26_ADC0, 41 GPIO27_ADC1, 42 GPIO28_ADC2, 43 GPIO29_ADC3, 44 ADC_AVDD, 45 IOVDD, 46 VREG_AVDD, 47 VREG_PGND, 48 VREG_LX, 49 VREG_VIN, 50 VREG_FB, 51 USB_DM, 52 USB_DP, 53 USB_OTP_VDD, 54 QSPI_IOVDD, 55 QSPI_SD3, 56 QSPI_SCLK, 57 QSPI_SD0, 58 QSPI_SD2, 59 QSPI_SD1, 60 QSPI_SS, 61 GND
text: Raspberry Pi; RP235xA

## SM03B-SRSS-TB(LF)(SN)
designator P?
Male Header, Pitch 1 mm, 1 x 3 Position, Height 2.9 mm, -25 to 85 degC, RoHS, Tape and Reel; Manufacturer: JST; Pitch: 1mm; Style/Orientation: RightAngleHeader/Plug; No of Positions: 3; Package Description: Male Header, Pitch 1 mm, 1 x 3 Position, Height 2.9 mm; Manufacturer URL: http://www.jst.com/home2.html; Package Reference: SM03B-SRSS-TB; Type: ShroudedHeader; Termination: Crimp; Mounting Technology: SurfaceMount; Datasheet Version: 11/2010; Datasheet URL: https://datasheet.ciiva.com/26894/getdatasheetpartid-708885-26894671.pdf; Supplier 1: Mouser; Supplier Part Number 1: 306-SM03BSRSSTBLFSNP
footprint JST-SM03B-SRSS-TB_V (SMD, 3-Leads, Body 5x4.25mm, Pitch 1mm)
pins: 1, 2, 3, MP1, MP2

## SML-LX0404SIUPGUSB
designator RGB?
LED Low-Power Tri-Color Blue/Green/Red 465nm/518nm/632nm 2.7V/2.75V/1.95V 4-Pin SMD T/R; Manufacturer: Lumex; Lens Color: Colorless; Lens Style: Square,Clear,Rectangular; Viewing Angle: 120°; Forward Current: 2mA; Luminous Intensity: 20mcd; Forward Voltage: 2.73V; Lens Transparency: Clear; Number of LEDs: 3; Wavelength: 465nm; Power Rating: 30mW; Reverse Voltage: 5V; Supplier: Mouser; Supplier Part Number: 696-LX0404SIUPGUSB; Manufacturer Part Number: SML-LX0404SIUPGUSB; RoHS: Yes; Category: LEDs; Stock: 113976; Pricing: 1=0.94, 10=0.633, 50=0.633, 100=0.518, 1000=0.444, 10000=0.371 (USD); Mounting Technology: Surface Mount; Case/Package: 0404; Color: Blue,Green,Red; Case Code (Metric): 1010; Case Code (Imperial): 0404; Min Operating Temperature: -40°C; Max Operating Temperature: 85°C; Packaging: Tape and Reel; Package Quantity: 2000; Test Current: 2mA; Series: -; Moisture Sensitivity Level: 4; Length: 1mm; Width: 1mm; Height: 0.3mm; Reach SVHC Compliant: No; Lead Free: Lead Free; RoHS Compliant: Yes; ComponentLink1URL: https://datasheet.ciiva.com/1246/1423960-1246392.pdf?src-supplier=Element14; ComponentLink1Description: https://datasheet.ciiva.com/1246/1423960-1246392.pdf?src-supplier=Element14; ComponentLink2URL: https://datasheet.ciiva.com/1333/lumex-quasarbrite-0404smdrgb-productbrochure-1333009.pdf?src-supplier=Newark; ComponentLink2Description: https://datasheet.ciiva.com/1333/lumex-quasarbrite-0404smdrgb-productbrochure-1333009.pdf?src-supplier=Newark; ComponentLink3URL: https://datasheet.ciiva.com/2118/sml-lx0404siupgusb-2118652.pdf?src-supplier=Digikey; ComponentLink3Description: https://datasheet.ciiva.com/2118/sml-lx0404siupgusb-2118652.pdf?src-supplier=Digikey; ComponentLink4URL: https://datasheet.ciiva.com/4689/sml-lx0404siupgusb-202559-4689572.pdf?src-supplier=Mouser; ComponentLink4Description: https://datasheet.ciiva.com/4689/sml-lx0404siupgusb-202559-4689572.pdf?src-supplier=Mouser; ComponentLink5URL: https://datasheet.ciiva.com/16199/sml-lx0404siupgusb-16199820.pdf?src-supplier=Future+Electronics; ComponentLink5Description: https://datasheet.ciiva.com/16199/sml-lx0404siupgusb-16199820.pdf?src-supplier=Future+Electronics; ComponentLink6URL: https://datasheet.ciiva.com/1246/1484526-1246779.pdf?src-supplier=Element14; ComponentLink6Description: https://datasheet.ciiva.com/1246/1484526-1246779.pdf?src-supplier=Element14; ComponentLink7URL: https://datasheet.ciiva.com/2118/sml-lx0404siupgusb-2118653.pdf?src-supplier=Digikey; ComponentLink7Description: https://datasheet.ciiva.com/2118/sml-lx0404siupgusb-2118653.pdf?src-supplier=Digikey; ComponentLink8URL: https://datasheet.ciiva.com/2118/sml-lx0404siupgusb-2118654.pdf?src-supplier=Digikey; ComponentLink8Description: https://datasheet.ciiva.com/2118/sml-lx0404siupgusb-2118654.pdf?src-supplier=Digikey; ComponentLink9URL: https://datasheet.ciiva.com/14604/70127422-14604949.pdf?src-supplier=Allied+Electronics; ComponentLink9Description: https://datasheet.ciiva.com/14604/70127422-14604949.pdf?src-supplier=Allied+Electronics
footprint SML-LX0404SIUPGUSB
pins: 1 A, 2 K, 3 K, 4 K

## SN74LVC1G17YZPR
designator U?
Schmitt Trigger 32mA 1 1.65V~5.5V 32mA 1 BGA-5 Buffer/Driver/Transceiver ROHS; Manufacturer: Texas Instruments; Manufacturer Lifecycle Status: ACTIVE; High Level Output Current: -32mA; Logic Function: Buffer, Schmitt Trigger; Max Supply Voltage: 5.5V; Min Supply Voltage: 1.65V; Number of Bits: 1; Operating Supply Voltage: 3.3V; Polarity: Non-Inverting; Propagation Delay: 5ns; Quiescent Current: 1.5µA; Supplier: DigiKey; Supplier Part Number: 296-SN74LVC1G17YZPRCT-ND; Manufacturer Part Number: SN74LVC1G17YZPR; RoHS: Compliant; Category: Buffers, Drivers and Transceivers; Stock: 4124; Pricing: 1=0.46, 10=0.325, 25=0.29, 100=0.2515, 250=0.2332, 500=0.22216, 1000=0.21307 (USD); Case/Package: BGA; Contact Plating: Copper, Silver, Tin; Height: 500µm; Lead Free: Lead Free; Length: 1.75mm; Lifecycle Status: Production; Low Level Output Current: 32mA; Max Operating Temperature: 125°C; Min Operating Temperature: -40°C; Mounting Technology: Surface Mount; Number of Bits per Element: 1; Number of Channels: 1; Number of Elements: 1; Number of Gates: 1; Number of Input Lines: 1; Number of Inputs: 1; Number of Output Lines: 1; Number of Outputs: 1; Pins: 5; Packaging: Cut Tape; Radiation Hardening: No; REACH SVHC: No; Termination: SMD/SMT; Thickness: 310µm; Turn-On Delay Time: 5ns; Width: 1.25mm; ComponentLink1URL: https://sigma.octopart.com:443/82288934/technical_drawing/Texas-Instruments-SN74LVC1G17YZPR.pdf?src-supplier=Texas+Instruments; ComponentLink1Description: https://sigma.octopart.com:443/82288934/technical_drawing/Texas-Instruments-SN74LVC1G17YZPR.pdf?src-supplier=Texas+Instruments; ComponentLink2URL: https://octopart.com:443/opatz8j6/c1?t=PyRarBsQ05LdiDhXNvU2f3oOqG1-bb7WCxWCMaxFTmsOtBRs7KjqXNp5sK_2d0llqty9KOIOP86L9m9F78mSvRKYKo43feLMx4OdbDLm-cZoL3aN5xX_-495hjOu7brVzsSaJqe0eM_P8AhVpHi5puBlhKbIrFeSrOCwHxcHWgi5PnhRUKZWtBRbK-25zEuCk6Jfi-bdFYgzu2MWub_x0O3lvfea8XTq7PdaVle1BtMyJ7Nv0Q4WJJSTRfTQuvPxk3b1_s4PYKQPF9FomEyeEEj8XMVdl7f4NPzizzEWK0FpT5uVNEEH98wbQrCFEjl8Ci9lfXN94WXBbZAYDLWqKcgI-0_yVWRTKmhI7HVloxJ-RsHHV951LAIPonwWLS7kB55M7FxHmQ&src-supplier=Texas+Instruments; ComponentLink2Description: https://octopart.com:443/opatz8j6/c1?t=PyRarBsQ05LdiDhXNvU2f3oOqG1-bb7WCxWCMaxFTmsOtBRs7KjqXNp5sK_2d0llqty9KOIOP86L9m9F78mSvRKYKo43feLMx4OdbDLm-cZoL3aN5xX_-495hjOu7brVzsSaJqe0eM_P8AhVpHi5puBlhKbIrFeSrOCwHxcHWgi5PnhRUKZWtBRbK-25zEuCk6Jfi-bdFYgzu2MWub_x0O3lvfea8XTq7PdaVle1BtMyJ7Nv0Q4WJJSTRfTQuvPxk3b1_s4PYKQPF9FomEyeEEj8XMVdl7f4NPzizzEWK0FpT5uVNEEH98wbQrCFEjl8Ci9lfXN94WXBbZAYDLWqKcgI-0_yVWRTKmhI7HVloxJ-RsHHV951LAIPonwWLS7kB55M7FxHmQ&src-supplier=Texas+Instruments; ComponentLink3URL: https://datasheet.octopart.com:443/SN74LVC1G17YZPR-Texas-Instruments-datasheet-25356049.pdf?src-supplier=Texas+Instruments; ComponentLink3Description: https://datasheet.octopart.com:443/SN74LVC1G17YZPR-Texas-Instruments-datasheet-25356049.pdf?src-supplier=Texas+Instruments; ComponentLink4URL: https://sigma.octopart.com:443/49258429/technical_drawing/Texas-Instruments-SN74LVC1G17YZPR.pdf?src-supplier=Texas+Instruments; ComponentLink4Description: https://sigma.octopart.com:443/49258429/technical_drawing/Texas-Instruments-SN74LVC1G17YZPR.pdf?src-supplier=Texas+Instruments; ComponentLink5URL: https://datasheet.octopart.com:443/SN74LVC1G17YZPR-Texas-Instruments-datasheet-13037214.pdf?src-supplier=Texas+Instruments; ComponentLink5Description: https://datasheet.octopart.com:443/SN74LVC1G17YZPR-Texas-Instruments-datasheet-13037214.pdf?src-supplier=Texas+Instruments; ComponentLink6URL: https://datasheet.octopart.com:443/SN74LVC1G17YZPR-Texas-Instruments-datasheet-10899358.pdf?src-supplier=Texas+Instruments; ComponentLink6Description: https://datasheet.octopart.com:443/SN74LVC1G17YZPR-Texas-Instruments-datasheet-10899358.pdf?src-supplier=Texas+Instruments; ComponentLink7URL: https://datasheet.octopart.com:443/SN74LVC1G17YZPR-Texas-Instruments-datasheet-10669839.pdf?src-supplier=Texas+Instruments; ComponentLink7Description: https://datasheet.octopart.com:443/SN74LVC1G17YZPR-Texas-Instruments-datasheet-10669839.pdf?src-supplier=Texas+Instruments; ComponentLink8URL: https://datasheet.octopart.com:443/SN74LVC1G17YZPR-Texas-Instruments-datasheet-152405.pdf?src-supplier=Texas+Instruments; ComponentLink8Description: https://datasheet.octopart.com:443/SN74LVC1G17YZPR-Texas-Instruments-datasheet-152405.pdf?src-supplier=Texas+Instruments; ComponentLink9URL: https://datasheet.octopart.com:443/SN74LVC1G17YZPR-Texas-Instruments-datasheet-151447.pdf?src-supplier=Texas+Instruments; ComponentLink9Description: https://datasheet.octopart.com:443/SN74LVC1G17YZPR-Texas-Instruments-datasheet-151447.pdf?src-supplier=Texas+Instruments; ComponentLink10URL: https://datasheet.octopart.com:443/SN74LVC1G17YZPR-Texas-Instruments-datasheet-10256894.pdf?src-supplier=Texas+Instruments; ComponentLink10Description: https://datasheet.octopart.com:443/SN74LVC1G17YZPR-Texas-Instruments-datasheet-10256894.pdf?src-supplier=Texas+Instruments; ComponentLink11URL: https://datasheet.octopart.com:443/SN74LVC1G17YZPR-Texas-Instruments-datasheet-21221582.pdf?src-supplier=HQonline; ComponentLink11Description: https://datasheet.octopart.com:443/SN74LVC1G17YZPR-Texas-Instruments-datasheet-21221582.pdf?src-supplier=HQonline; ComponentLink12URL: https://datasheet.octopart.com:443/SN74LVC1G17YZPR-Texas-Instruments-datasheet-164417656.pdf?src-supplier=SHENGYU+ELECTRONICS; ComponentLink12Description: https://datasheet.octopart.com:443/SN74LVC1G17YZPR-Texas-Instruments-datasheet-164417656.pdf?src-supplier=SHENGYU+ELECTRONICS; ComponentLink13URL: https://datasheet.octopart.com:443/SN74LVC1G17YZPR-Texas-Instruments-datasheet-65713482.pdf?src-supplier=Newark; ComponentLink13Description: https://datasheet.octopart.com:443/SN74LVC1G17YZPR-Texas-Instruments-datasheet-65713482.pdf?src-supplier=Newark; ComponentLink14URL: https://datasheet.octopart.com:443/SN74LVC1G17YZPR-Texas-Instruments-datasheet-62342808.pdf?src-supplier=Newark; ComponentLink14Description: https://datasheet.octopart.com:443/SN74LVC1G17YZPR-Texas-Instruments-datasheet-62342808.pdf?src-supplier=Newark; ComponentLink15URL: https://datasheet.octopart.com:443/SN74LVC1G17YZPR-Texas-Instruments-datasheet-14144602.pdf?src-supplier=iiiC; ComponentLink15Description: https://datasheet.octopart.com:443/SN74LVC1G17YZPR-Texas-Instruments-datasheet-14144602.pdf?src-supplier=iiiC; ComponentLink16URL: https://datasheet.octopart.com:443/SN74LVC1G17YZPR-Texas-Instruments-datasheet-11534093.pdf?src-supplier=Farnell; ComponentLink16Description: https://datasheet.octopart.com:443/SN74LVC1G17YZPR-Texas-Instruments-datasheet-11534093.pdf?src-supplier=Farnell; ComponentLink17URL: https://datasheet.octopart.com:443/SN74LVC1G17YZPR-Texas-Instruments-datasheet-10413188.pdf?src-supplier=Farnell; ComponentLink17Description: https://datasheet.octopart.com:443/SN74LVC1G17YZPR-Texas-Instruments-datasheet-10413188.pdf?src-supplier=Farnell; ComponentLink18URL: https://datasheet.octopart.com:443/SN74LVC1G17YZPR-Texas-Instruments-datasheet-530134.pdf?src-supplier=Farnell; ComponentLink18Description: https://datasheet.octopart.com:443/SN74LVC1G17YZPR-Texas-Instruments-datasheet-530134.pdf?src-supplier=Farnell; ComponentLink19URL: https://datasheet.octopart.com:443/SN74LVC1G17YZPR-Texas-Instruments-datasheet-24634.pdf?src-supplier=DigiKey; ComponentLink19Description: https://datasheet.octopart.com:443/SN74LVC1G17YZPR-Texas-Instruments-datasheet-24634.pdf?src-supplier=DigiKey; ComponentLink20URL: http://sigma.octopart.com:80/reach_statement/Texas-Instruments-company-64.pdf?src-supplier=Compliance+Statements; ComponentLink20Description: http://sigma.octopart.com:80/reach_statement/Texas-Instruments-company-64.pdf?src-supplier=Compliance+Statements; ComponentLink21URL: http://sigma.octopart.com:80/conflict_mineral_statement/Texas-Instruments-company-63.pdf?src-supplier=Compliance+Statements; ComponentLink21Description: http://sigma.octopart.com:80/conflict_mineral_statement/Texas-Instruments-company-63.pdf?src-supplier=Compliance+Statements; Supplier 1: DigiKey; Supplier Part Number 1: 296-SN74LVC1G17YZPRCT-ND
footprint YZP0005ADAD (BGA, 5-Balls, Body 1.39x0.89mm, Pitch 0.5mm)
pins: A1 DNU "Do not use", A2 VCC (power) "Power", B1 A (in) "Input", C1 GND (power) "Ground", C2 Y (out) "Output"

## SSQ-106-23-F-S
designator P?
Headers & Wire Housings Tiger Buy Socket Strip with Square Tails, 0.100 Pitch; Manufacturer: Samtec; Gender: Receptacle; Number of Contacts: 6; Pitch: 2.54mm; Supplier: Digikey; Supplier Part Number: SSQ-106-23-F-S-ND; Manufacturer Part Number: SSQ-106-23-F-S; RoHS: Yes; Category: Headers and Wire Housings; Stock: 84; Pricing: 1=1.54, 50=1.2, 100=0.97, 500=0.82, 1000=0.775 (USD); Mounting Technology: Through Hole; Contact Plating: Gold; Contact Material: Bronze; Packaging: Bulk; Number of Rows: 1; Termination: Solder; Series: SSQ; Radiation Hardening: No; Lead Free: Lead Free; RoHS Compliant: Yes; Reach SVHC Compliant: No; ComponentLink1URL: ftp://ftp.samtec.com/webfiles/PDF/SSQ_TH.PDF?src-supplier=Avnet; ComponentLink1Description: ftp://ftp.samtec.com/webfiles/PDF/SSQ_TH.PDF?src-supplier=Avnet; Supplier 1: Digikey; Supplier Part Number 1: SSQ-106-23-F-S-ND
footprint FP-SSQ-106-23-F-S-MFG
pins: 1, 2, 3, 4, 5, 6

## TESTPAD
designator TP?  (value not drawn)  (no BOM)
TESTPOINT PIN SMD; Category: Test and Measurement; Type: PC Test Point; Mounting Type: Surface Mount; Color: -
footprint TEST_PAD (TRST PAD with no connection)
pins: 1

## Touch-15Ch-Linear
designator Touch, comment NC
footprint Touch-15Ch-Linear
pins: 1, 2, 3, 4, 5, 6, 7, 8, 9, 10, 11, 12, 13, 14, 15

## TPS62840YBGR
designator U?
Conv DC-DC 1.8V to 6.5V Synchronous Step Down Single-Out 1.8V to 3.3V 0.75A 6-Pin DSBGA T/R; Manufacturer: Texas Instruments; Supplier: Mouser; Supplier Part Number: 595-TPS62840YBGR; Manufacturer Part Number: TPS62840YBGR; RoHS: Yes; Category: Voltage Regulators - Switching; Stock: 2271; Pricing: 1=1,97, 10=1,77, 50=1,77, 100=1,42, 1000=0,972, 10000=0,865 (USD); Supplier 1: Mouser; Supplier Part Number 1: 595-TPS62840YBGR
footprint BGA6C40P2X3_97X147X50 (BGA, 6-Leads, Body 0,97x1,47mmx0,50mm, Pitch 0,40mm)
pins: A1 GND (power), A2 VOS (power), B1 VIN (power), B2 SW (power), C1 EN (in), C2 VSET (power)